# Altium footprint library SMD Opto Components.PcbLib: 31 footprints (part 1 of 2)
Each footprint in its own frame and in the unit in brackets; x right, y up, seen from the top. Pads: shape width x height; smd on the part's side, far side on the other; paste and mask are expansions set on the pad; w line width, h text height; cw(c..) or ccw(c..) is an arc to the next point about the centre after c.
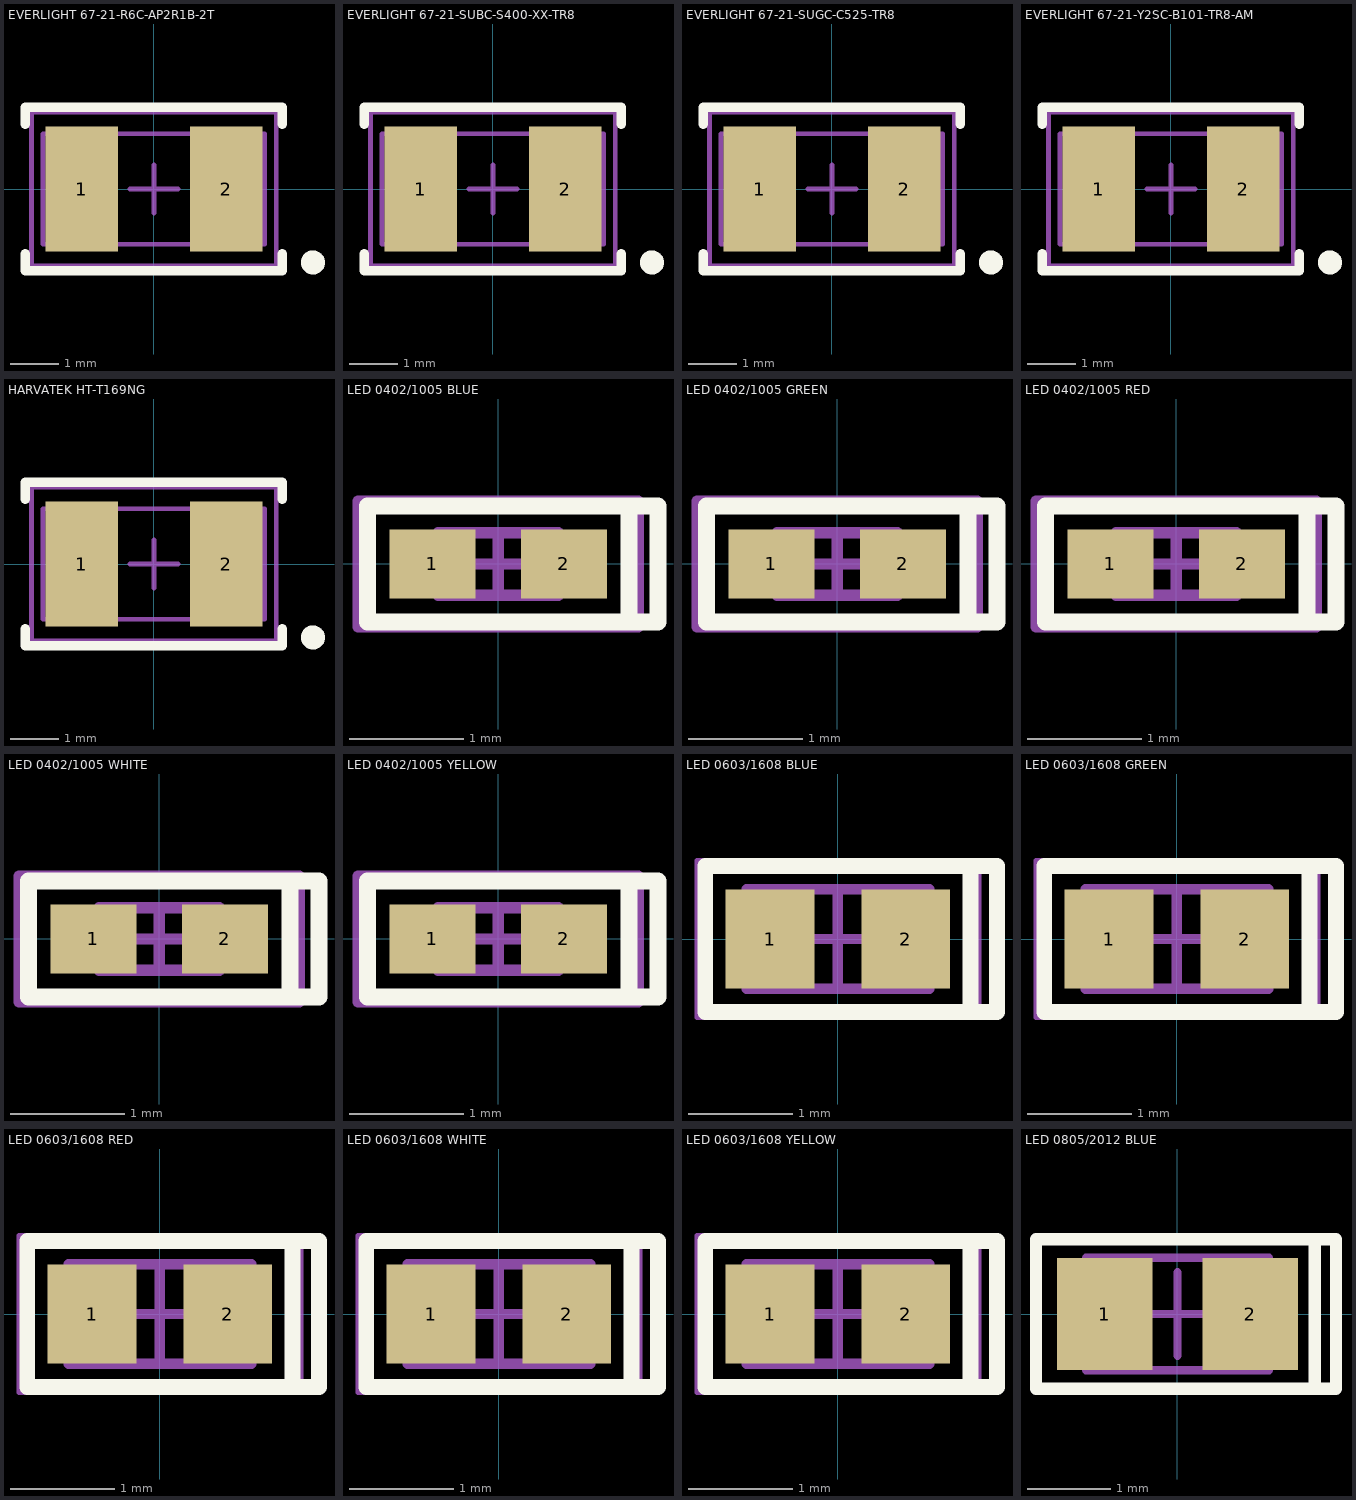
[diagram p0: the footprints below, top view; thin cyan lines are the x and y axes]

## EVERLIGHT 67-21-R6C-AP2R1B-2T [mm] "PLCC-2, Light Emmiting Diode, 2-Leads, Body 2.8x3.5mm, IPC Low Density"
height 2
pads (2):
  rect 1.5x2.6 smd: 1(-1.5,0) 2(1.5,0)
Top Overlay:
  circle w0.25: c3.302,-1.524 r0.125
  lines w0.2: -2.667,-1.35 -2.667,-1.7 2.667,-1.7 2.667,-1.35 ; -2.667,1.35 -2.667,1.7 2.667,1.7 2.667,1.35
Mechanical 13:
  rectangle: 1.681,-1.145 2.3,1.145
  lines w0.1: -2.3,-1.145 2.3,-1.145 2.3,1.145 -2.3,1.145 -2.3,-1.145
Mechanical 15:
  lines w0.1: -0.5,0 0.5,0 ; 0,-0.5 0,0.5 ; -2.54,-1.6 2.54,-1.6 2.54,1.6 -2.54,1.6 -2.54,-1.6
3D body "LHT674_LED RED.step": height 2.08, standoff -0.02, extent -1.85,-1.5 1.85,1.5

## EVERLIGHT 67-21-SUBC-S400-XX-TR8 [mm] "PLCC-2, Light Emmiting Diode, 2-Leads, Body 2.8x3.5mm, IPC Low Density"
height 2
pads (2):
  rect 1.5x2.6 smd: 1(-1.5,0) 2(1.5,0)
Top Overlay:
  circle w0.25: c3.302,-1.524 r0.125
  lines w0.2: -2.667,-1.35 -2.667,-1.7 2.667,-1.7 2.667,-1.35 ; -2.667,1.35 -2.667,1.7 2.667,1.7 2.667,1.35
Mechanical 13:
  rectangle: 1.681,-1.145 2.3,1.145
  lines w0.1: -2.3,-1.145 -2.3,1.145 2.3,1.145 2.3,-1.145 -2.3,-1.145
Mechanical 15:
  lines w0.1: -0.5,0 0.5,0 ; 0,-0.5 0,0.5 ; -2.54,-1.6 -2.54,1.6 2.54,1.6 2.54,-1.6 -2.54,-1.6
3D body "LHT674_LED BLUE.step": height 2.08, standoff -0.02, extent -1.85,-1.5 1.85,1.5

## EVERLIGHT 67-21-SUGC-C525-TR8 [mm] "PLCC-2, Light Emmiting Diode, 2-Leads, Body 2.8x3.5mm, IPC Low Density"
height 2
pads (2):
  rect 1.5x2.6 smd: 1(-1.5,0) 2(1.5,0)
Top Overlay:
  circle w0.25: c3.302,-1.524 r0.125
  lines w0.2: -2.667,-1.35 -2.667,-1.7 2.667,-1.7 2.667,-1.35 ; -2.667,1.35 -2.667,1.7 2.667,1.7 2.667,1.35
Mechanical 13:
  rectangle: 1.681,-1.145 2.3,1.145
  lines w0.1: -2.3,-1.145 2.3,-1.145 2.3,1.145 -2.3,1.145 -2.3,-1.145
Mechanical 15:
  lines w0.1: -0.5,0 0.5,0 ; 0,-0.5 0,0.5 ; -2.54,-1.6 2.54,-1.6 2.54,1.6 -2.54,1.6 -2.54,-1.6
3D body "LHT674_LED GREEN.step": height 2.08, standoff -0.02, extent -1.85,-1.5 1.85,1.5

## EVERLIGHT 67-21-Y2SC-B101-TR8-AM [mm] "PLCC-2, Light Emmiting Diode, 2-Leads, Body 2.8x3.5mm, IPC Low Density"
height 2
pads (2):
  rect 1.5x2.6 smd: 1(-1.5,0) 2(1.5,0)
Top Overlay:
  circle w0.25: c3.302,-1.524 r0.125
  lines w0.2: -2.667,-1.35 -2.667,-1.7 2.667,-1.7 2.667,-1.35 ; -2.667,1.35 -2.667,1.7 2.667,1.7 2.667,1.35
Mechanical 13:
  rectangle: 1.681,-1.145 2.3,1.145
  lines w0.1: -2.3,-1.145 2.3,-1.145 2.3,1.145 -2.3,1.145 -2.3,-1.145
Mechanical 15:
  lines w0.1: -0.5,0 0.5,0 ; 0,-0.5 0,0.5 ; -2.54,-1.6 2.54,-1.6 2.54,1.6 -2.54,1.6 -2.54,-1.6
3D body "LHT674_LED AMBER.step": height 2.08, standoff -0.02, extent -1.85,-1.5 1.85,1.5

## HARVATEK HT-T169NG [mm] "PLCC-2, Light Emmiting Diode, 2-Leads, Body 2.8x3.5mm, IPC Low Density"
height 2
pads (2):
  rect 1.5x2.6 smd: 1(-1.5,0) 2(1.5,0)
Top Overlay:
  circle w0.25: c3.302,-1.524 r0.125
  lines w0.2: -2.667,-1.35 -2.667,-1.7 2.667,-1.7 2.667,-1.35 ; -2.667,1.35 -2.667,1.7 2.667,1.7 2.667,1.35
Mechanical 13:
  rectangle: 1.681,-1.145 2.3,1.145
  lines w0.1: -2.3,-1.145 2.3,-1.145 2.3,1.145 -2.3,1.145 -2.3,-1.145
Mechanical 15:
  lines w0.1: -0.5,0 0.5,0 ; 0,-0.5 0,0.5 ; -2.54,-1.6 2.54,-1.6 2.54,1.6 -2.54,1.6 -2.54,-1.6
3D body "LHT674_LED GREEN.step": height 2.08, standoff -0.02, extent -1.85,-1.5 1.85,1.5

## LED 0402/1005 BLUE [mm] "Chip LED, IPC Medium Density"
height 0.4
pads (2):
  rect 0.75x0.6 smd: 1(-0.575,0) 2(0.575,0)
Top Overlay:
  lines w0.15: 1.143,-0.508 1.143,0.508 ; -1.143,-0.508 -1.143,0.508 1.397,0.508 1.397,-0.508 -1.143,-0.508
Mechanical 13:
  lines w0.1: -0.525,-0.275 0.525,-0.275 0.525,0.275 -0.525,0.275 -0.525,-0.275
Mechanical 15:
  lines w0.1: -0.275,0 0.275,0 ; 0,-0.275 0,0.275 ; -1.225,-0.55 1.225,-0.55 1.225,0.55 -1.225,0.55 -1.225,-0.55
3D body "LED 0402 B&L BLUE.STEP": height 0.15, standoff -0.05, extent -0.5,-0.25 0.5,0.25

## LED 0402/1005 GREEN [mm] "Chip LED, IPC Medium Density"
height 0.4
pads (2):
  rect 0.75x0.6 smd: 1(-0.575,0) 2(0.575,0)
Top Overlay:
  lines w0.15: 1.143,-0.508 1.143,0.508 ; -1.143,-0.508 1.397,-0.508 1.397,0.508 -1.143,0.508 -1.143,-0.508
Mechanical 13:
  lines w0.1: -0.525,-0.275 -0.525,0.275 0.525,0.275 0.525,-0.275 -0.525,-0.275
Mechanical 15:
  lines w0.1: -0.275,0 0.275,0 ; 0,-0.275 0,0.275 ; -1.225,-0.55 -1.225,0.55 1.225,0.55 1.225,-0.55 -1.225,-0.55
3D body "LED 0402 B&L GREEN.STEP": height 0.15, standoff -0.05, extent -0.5,-0.25 0.5,0.25

## LED 0402/1005 RED [mm] "Chip LED, IPC Medium Density"
height 0.4
pads (2):
  rect 0.75x0.6 smd: 1(-0.575,0) 2(0.575,0)
Top Overlay:
  lines w0.15: 1.143,-0.508 1.143,0.508 ; -1.143,-0.508 -1.143,0.508 1.397,0.508 1.397,-0.508 -1.143,-0.508
Mechanical 13:
  lines w0.1: -0.525,-0.275 0.525,-0.275 0.525,0.275 -0.525,0.275 -0.525,-0.275
Mechanical 15:
  lines w0.1: -0.275,0 0.275,0 ; 0,-0.275 0,0.275 ; -1.225,-0.55 1.225,-0.55 1.225,0.55 -1.225,0.55 -1.225,-0.55
3D body "LED 0402 B&L RED.STEP": height 0.15, standoff -0.05, extent -0.5,-0.25 0.5,0.25

## LED 0402/1005 WHITE [mm] "Chip LED, IPC Medium Density"
height 0.4
pads (2):
  rect 0.75x0.6 smd: 1(-0.575,0) 2(0.575,0)
Top Overlay:
  lines w0.15: 1.143,-0.508 1.143,0.508 ; -1.143,-0.508 1.397,-0.508 1.397,0.508 -1.143,0.508 -1.143,-0.508
Mechanical 13:
  lines w0.1: -0.525,-0.275 -0.525,0.275 0.525,0.275 0.525,-0.275 -0.525,-0.275
Mechanical 15:
  lines w0.1: -0.275,0 0.275,0 ; 0,-0.275 0,0.275 ; -1.225,-0.55 -1.225,0.55 1.225,0.55 1.225,-0.55 -1.225,-0.55
3D body "LED 0402 B&L WHITE.STEP": height 0.15, standoff -0.05, extent -0.5,-0.25 0.5,0.25

## LED 0402/1005 YELLOW [mm] "Chip LED, IPC Medium Density"
height 0.4
pads (2):
  rect 0.75x0.6 smd: 1(-0.575,0) 2(0.575,0)
Top Overlay:
  lines w0.15: 1.143,-0.508 1.143,0.508 ; -1.143,-0.508 1.397,-0.508 1.397,0.508 -1.143,0.508 -1.143,-0.508
Mechanical 13:
  lines w0.1: -0.525,-0.275 -0.525,0.275 0.525,0.275 0.525,-0.275 -0.525,-0.275
Mechanical 15:
  lines w0.1: -0.275,0 0.275,0 ; 0,-0.275 0,0.275 ; -1.225,-0.55 -1.225,0.55 1.225,0.55 1.225,-0.55 -1.225,-0.55
3D body "LED 0402 B&L YELLOW.STEP": height 0.15, standoff -0.05, extent -0.5,-0.25 0.5,0.25

## LED 0603/1608 BLUE [mm] "Chip LED, IPC Medium Density"
height 0.45
pads (2):
  rect 0.85x0.95 smd: 1(-0.65,0) 2(0.65,0)
Top Overlay:
  lines w0.15: 1.27,-0.7 1.27,0.7 ; -1.27,-0.7 1.524,-0.7 1.524,0.7 -1.27,0.7 -1.27,-0.7
Mechanical 13:
  lines w0.1: -0.875,-0.475 0.875,-0.475 0.875,0.475 -0.875,0.475 -0.875,-0.475
Mechanical 15:
  lines w0.05: -1.35,-0.75 1.35,-0.75 1.35,0.75 -1.35,0.75 -1.35,-0.75
  lines w0.1: -0.475,0 0.475,0 ; 0,-0.475 0,0.475
3D body "LED 0603 B&L BLUE.STEP": height 0.48, standoff -0.05, extent -0.8,-0.4 0.8,0.4

## LED 0603/1608 GREEN [mm] "Chip LED, IPC Medium Density"
height 0.45
pads (2):
  rect 0.85x0.95 smd: 1(-0.65,0) 2(0.65,0)
Top Overlay:
  lines w0.15: 1.27,-0.7 1.27,0.7 ; -1.27,-0.7 1.524,-0.7 1.524,0.7 -1.27,0.7 -1.27,-0.7
Mechanical 13:
  lines w0.1: -0.875,-0.475 0.875,-0.475 0.875,0.475 -0.875,0.475 -0.875,-0.475
Mechanical 15:
  lines w0.05: -1.35,-0.75 1.35,-0.75 1.35,0.75 -1.35,0.75 -1.35,-0.75
  lines w0.1: -0.475,0 0.475,0 ; 0,-0.475 0,0.475
3D body "LED 0603 B&L GREEN.stp": height 0.48, standoff -0.05, extent -0.8,-0.4 0.8,0.4

## LED 0603/1608 RED [mm] "Chip LED, IPC Medium Density"
height 0.45
pads (2):
  rect 0.85x0.95 smd: 1(-0.65,0) 2(0.65,0)
Top Overlay:
  lines w0.15: 1.27,-0.7 1.27,0.7 ; -1.27,-0.7 1.524,-0.7 1.524,0.7 -1.27,0.7 -1.27,-0.7
Mechanical 13:
  lines w0.1: -0.875,-0.475 0.875,-0.475 0.875,0.475 -0.875,0.475 -0.875,-0.475
Mechanical 15:
  lines w0.05: -1.35,-0.75 1.35,-0.75 1.35,0.75 -1.35,0.75 -1.35,-0.75
  lines w0.1: -0.475,0 0.475,0 ; 0,-0.475 0,0.475
3D body "LED 0603 B&L RED.stp": height 0.48, standoff -0.05, extent -0.8,-0.4 0.8,0.4

## LED 0603/1608 WHITE [mm] "Chip LED, IPC Medium Density"
height 0.45
pads (2):
  rect 0.85x0.95 smd: 1(-0.65,0) 2(0.65,0)
Top Overlay:
  lines w0.15: 1.27,-0.7 1.27,0.7 ; -1.27,-0.7 -1.27,0.7 1.524,0.7 1.524,-0.7 -1.27,-0.7
Mechanical 13:
  lines w0.1: -0.875,-0.475 -0.875,0.475 0.875,0.475 0.875,-0.475 -0.875,-0.475
Mechanical 15:
  lines w0.05: -1.35,-0.75 -1.35,0.75 1.35,0.75 1.35,-0.75 -1.35,-0.75
  lines w0.1: -0.475,0 0.475,0 ; 0,-0.475 0,0.475
3D body "LED 0603 B&L WHITE.stp": height 0.48, standoff -0.05, extent -0.8,-0.4 0.8,0.4

## LED 0603/1608 YELLOW [mm] "Chip LED, IPC Medium Density"
height 0.45
pads (2):
  rect 0.85x0.95 smd: 1(-0.65,0) 2(0.65,0)
Top Overlay:
  lines w0.15: 1.27,-0.7 1.27,0.7 ; -1.27,-0.7 1.524,-0.7 1.524,0.7 -1.27,0.7 -1.27,-0.7
Mechanical 13:
  lines w0.1: -0.875,-0.475 0.875,-0.475 0.875,0.475 -0.875,0.475 -0.875,-0.475
Mechanical 15:
  lines w0.05: -1.35,-0.75 1.35,-0.75 1.35,0.75 -1.35,0.75 -1.35,-0.75
  lines w0.1: -0.475,0 0.475,0 ; 0,-0.475 0,0.475
3D body "LED 0603 B&L YELLOW.stp": height 0.48, standoff -0.05, extent -0.8,-0.4 0.8,0.4

## LED 0805/2012 BLUE [mm] "Chip LED, IPC Medium Density"
height 0.7
pads (2):
  rect 1.15x1.35 smd: 1(-0.875,0) 2(0.875,0)
Top Overlay:
  lines w0.15: 1.651,-0.9 1.651,0.9 ; -1.7,-0.9 1.905,-0.9 1.905,0.9 -1.7,0.9 -1.7,-0.9
Mechanical 13:
  lines w0.1: -1.1,-0.675 1.1,-0.675 1.1,0.675 -1.1,0.675 -1.1,-0.675
Mechanical 15:
  lines w0.05: -1.7,-0.95 1.7,-0.95 1.7,0.95 -1.7,0.95 -1.7,-0.95
  lines w0.1: -0.5,0 0.5,0 ; 0,-0.5 0,0.5
3D body "LED 0805 B&L BLUE.STEP": height 0.85, standoff -0.05, extent -1,-0.625 1,0.625